# Altium schematic symbol library SCH - MCU - STM32 - ST MICROELECTRONICS STM32G071R(6-8-B)TX LQFP64.SchLib: 1 symbol
Pins are listed as number, name and electrical type; pins without a type are passive.

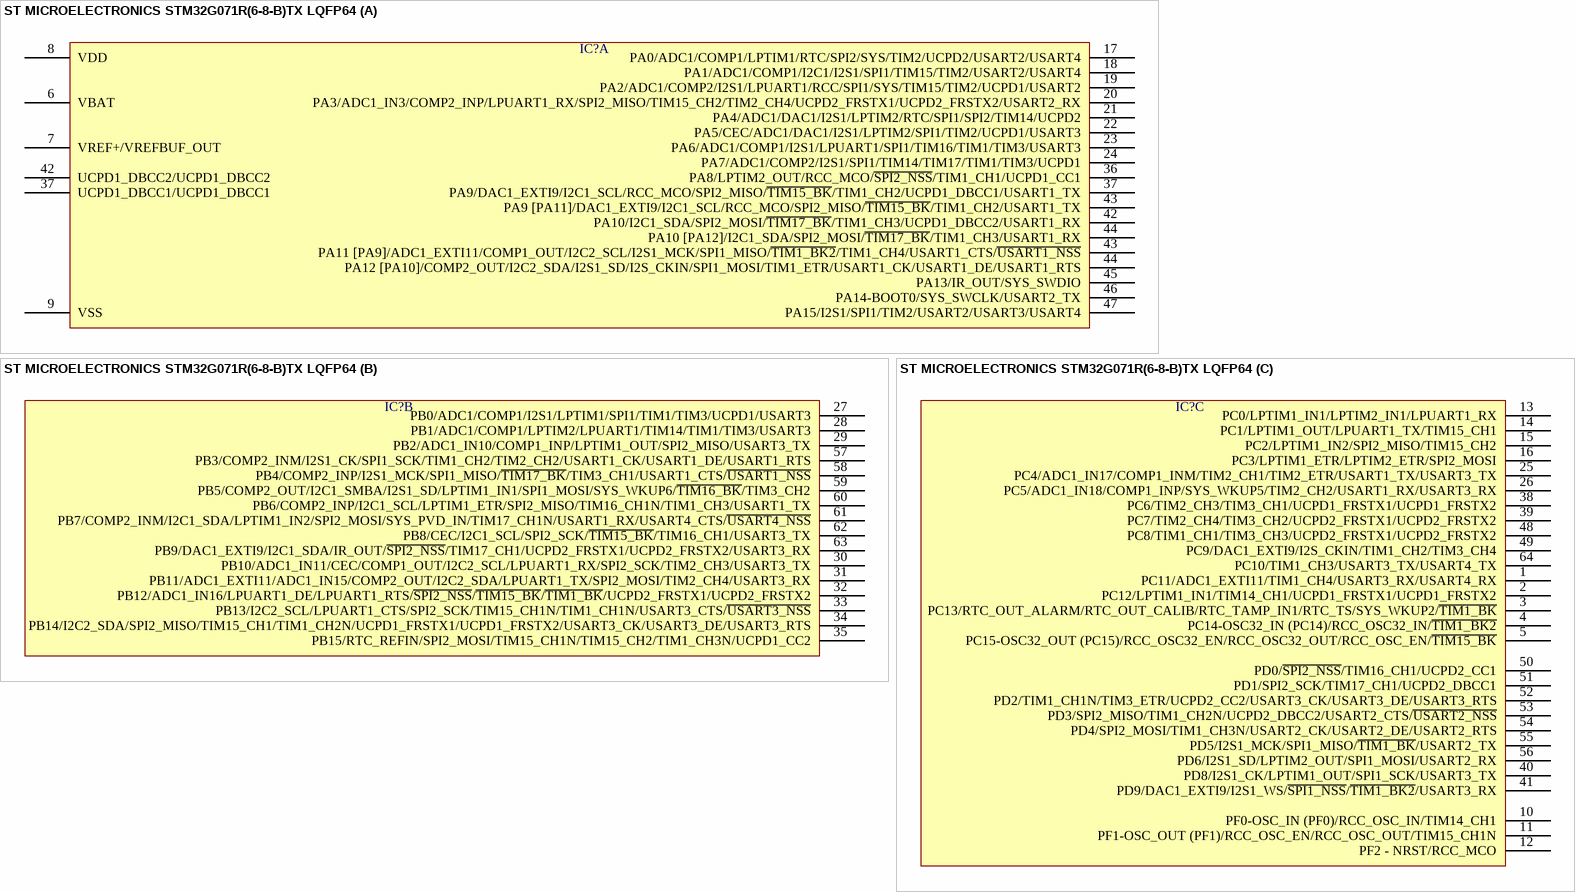
[diagram p0: symbol ST MICROELECTRONICS STM32G071R(6-8-B)TX LQFP64]

## ST MICROELECTRONICS STM32G071R(6-8-B)TX LQFP64
designator IC?  (value not drawn)
part A pins: 6 VBAT, 7 VREF+/VREFBUF_OUT, 8 VDD, 9 VSS, 17 PA0/ADC1/COMP1/LPTIM1/RTC/SPI2/SYS/TIM2/UCPD2/USART2/USART4, 18 PA1/ADC1/COMP1/I2C1/I2S1/SPI1/TIM15/TIM2/USART2/USART4, 19 PA2/ADC1/COMP2/I2S1/LPUART1/RCC/SPI1/SYS/TIM15/TIM2/UCPD1/USART2, 20 PA3/ADC1_IN3/COMP2_INP/LPUART1_RX/SPI2_MISO/TIM15_CH2/TIM2_CH4/UCPD2_FRSTX1/UCPD2_FRSTX2/USART2_RX, 21 PA4/ADC1/DAC1/I2S1/LPTIM2/RTC/SPI1/SPI2/TIM14/UCPD2, 22 PA5/CEC/ADC1/DAC1/I2S1/LPTIM2/SPI1/TIM2/UCPD1/USART3, 23 PA6/ADC1/COMP1/I2S1/LPUART1/SPI1/TIM16/TIM1/TIM3/USART3, 24 PA7/ADC1/COMP2/I2S1/SPI1/TIM14/TIM17/TIM1/TIM3/UCPD1, 36 PA8/LPTIM2_OUT/RCC_MCO/~{SPI2_NSS}/TIM1_CH1/UCPD1_CC1, 37 PA9/DAC1_EXTI9/I2C1_SCL/RCC_MCO/SPI2_MISO/~{TIM15_BK}/TIM1_CH2/UCPD1_DBCC1/USART1_TX, 37 UCPD1_DBCC1/UCPD1_DBCC1, 42 PA10/I2C1_SDA/SPI2_MOSI/~{TIM17_BK}/TIM1_CH3/UCPD1_DBCC2/USART1_RX, 42 UCPD1_DBCC2/UCPD1_DBCC2, 43 PA9 [PA11]/DAC1_EXTI9/I2C1_SCL/RCC_MCO/SPI2_MISO/~{TIM15_BK}/TIM1_CH2/USART1_TX, 43 PA11 [PA9]/ADC1_EXTI11/COMP1_OUT/I2C2_SCL/I2S1_MCK/SPI1_MISO/~{TIM1_BK2}/TIM1_CH4/USART1_CTS/~{USART1_NSS}, 44 PA10 [PA12]/I2C1_SDA/SPI2_MOSI/~{TIM17_BK}/TIM1_CH3/USART1_RX, 44 PA12 [PA10]/COMP2_OUT/I2C2_SDA/I2S1_SD/I2S_CKIN/SPI1_MOSI/TIM1_ETR/USART1_CK/USART1_DE/USART1_RTS, 45 PA13/IR_OUT/SYS_SWDIO, 46 PA14-BOOT0/SYS_SWCLK/USART2_TX, 47 PA15/I2S1/SPI1/TIM2/USART2/USART3/USART4
part B pins: 27 PB0/ADC1/COMP1/I2S1/LPTIM1/SPI1/TIM1/TIM3/UCPD1/USART3, 28 PB1/ADC1/COMP1/LPTIM2/LPUART1/TIM14/TIM1/TIM3/USART3, 29 PB2/ADC1_IN10/COMP1_INP/LPTIM1_OUT/SPI2_MISO/USART3_TX, 30 PB10/ADC1_IN11/CEC/COMP1_OUT/I2C2_SCL/LPUART1_RX/SPI2_SCK/TIM2_CH3/USART3_TX, 31 PB11/ADC1_EXTI11/ADC1_IN15/COMP2_OUT/I2C2_SDA/LPUART1_TX/SPI2_MOSI/TIM2_CH4/USART3_RX, 32 PB12/ADC1_IN16/LPUART1_DE/LPUART1_RTS/~{SPI2_NSS}/~{TIM15_BK}/~{TIM1_BK}/UCPD2_FRSTX1/UCPD2_FRSTX2, 33 PB13/I2C2_SCL/LPUART1_CTS/SPI2_SCK/TIM15_CH1N/TIM1_CH1N/USART3_CTS/~{USART3_NSS}, 34 PB14/I2C2_SDA/SPI2_MISO/TIM15_CH1/TIM1_CH2N/UCPD1_FRSTX1/UCPD1_FRSTX2/USART3_CK/USART3_DE/USART3_RTS, 35 PB15/RTC_REFIN/SPI2_MOSI/TIM15_CH1N/TIM15_CH2/TIM1_CH3N/UCPD1_CC2, 57 PB3/COMP2_INM/I2S1_CK/SPI1_SCK/TIM1_CH2/TIM2_CH2/USART1_CK/USART1_DE/USART1_RTS, 58 PB4/COMP2_INP/I2S1_MCK/SPI1_MISO/~{TIM17_BK}/TIM3_CH1/USART1_CTS/~{USART1_NSS}, 59 PB5/COMP2_OUT/I2C1_SMBA/I2S1_SD/LPTIM1_IN1/SPI1_MOSI/SYS_WKUP6/~{TIM16_BK}/TIM3_CH2, 60 PB6/COMP2_INP/I2C1_SCL/LPTIM1_ETR/SPI2_MISO/TIM16_CH1N/TIM1_CH3/USART1_TX, 61 PB7/COMP2_INM/I2C1_SDA/LPTIM1_IN2/SPI2_MOSI/SYS_PVD_IN/TIM17_CH1N/USART1_RX/USART4_CTS/~{USART4_NSS}, 62 PB8/CEC/I2C1_SCL/SPI2_SCK/~{TIM15_BK}/TIM16_CH1/USART3_TX, 63 PB9/DAC1_EXTI9/I2C1_SDA/IR_OUT/~{SPI2_NSS}/TIM17_CH1/UCPD2_FRSTX1/UCPD2_FRSTX2/USART3_RX
part C pins: 1 PC11/ADC1_EXTI11/TIM1_CH4/USART3_RX/USART4_RX, 2 PC12/LPTIM1_IN1/TIM14_CH1/UCPD1_FRSTX1/UCPD1_FRSTX2, 3 PC13/RTC_OUT_ALARM/RTC_OUT_CALIB/RTC_TAMP_IN1/RTC_TS/SYS_WKUP2/~{TIM1_BK}, 4 PC14-OSC32_IN (PC14)/RCC_OSC32_IN/~{TIM1_BK2}, 5 PC15-OSC32_OUT (PC15)/RCC_OSC32_EN/RCC_OSC32_OUT/RCC_OSC_EN/~{TIM15_BK}, 10 PF0-OSC_IN (PF0)/RCC_OSC_IN/TIM14_CH1, 11 PF1-OSC_OUT (PF1)/RCC_OSC_EN/RCC_OSC_OUT/TIM15_CH1N, 12 PF2 - NRST/RCC_MCO, 13 PC0/LPTIM1_IN1/LPTIM2_IN1/LPUART1_RX, 14 PC1/LPTIM1_OUT/LPUART1_TX/TIM15_CH1, 15 PC2/LPTIM1_IN2/SPI2_MISO/TIM15_CH2, 16 PC3/LPTIM1_ETR/LPTIM2_ETR/SPI2_MOSI, 25 PC4/ADC1_IN17/COMP1_INM/TIM2_CH1/TIM2_ETR/USART1_TX/USART3_TX, 26 PC5/ADC1_IN18/COMP1_INP/SYS_WKUP5/TIM2_CH2/USART1_RX/USART3_RX, 38 PC6/TIM2_CH3/TIM3_CH1/UCPD1_FRSTX1/UCPD1_FRSTX2, 39 PC7/TIM2_CH4/TIM3_CH2/UCPD2_FRSTX1/UCPD2_FRSTX2, 40 PD8/I2S1_CK/LPTIM1_OUT/SPI1_SCK/USART3_TX, 41 PD9/DAC1_EXTI9/I2S1_WS/~{SPI1_NSS}/~{TIM1_BK2}/USART3_RX, 48 PC8/TIM1_CH1/TIM3_CH3/UCPD2_FRSTX1/UCPD2_FRSTX2, 49 PC9/DAC1_EXTI9/I2S_CKIN/TIM1_CH2/TIM3_CH4, 50 PD0/~{SPI2_NSS}/TIM16_CH1/UCPD2_CC1, 51 PD1/SPI2_SCK/TIM17_CH1/UCPD2_DBCC1, 52 PD2/TIM1_CH1N/TIM3_ETR/UCPD2_CC2/USART3_CK/USART3_DE/USART3_RTS, 53 PD3/SPI2_MISO/TIM1_CH2N/UCPD2_DBCC2/USART2_CTS/~{USART2_NSS}, 54 PD4/SPI2_MOSI/TIM1_CH3N/USART2_CK/USART2_DE/USART2_RTS, 55 PD5/I2S1_MCK/SPI1_MISO/~{TIM1_BK}/USART2_TX, 56 PD6/I2S1_SD/LPTIM2_OUT/SPI1_MOSI/USART2_RX, 64 PC10/TIM1_CH3/USART3_TX/USART4_TX